# Altium footprint library Step_Motor_Driver.PcbLib: 16 footprints
Each footprint in its own frame and in the unit in brackets; x right, y up, seen from the top. Pads: shape width x height; smd on the part's side, far side on the other; paste and mask are expansions set on the pad; w line width, h text height; cw(c..) or ccw(c..) is an arc to the next point about the centre after c.
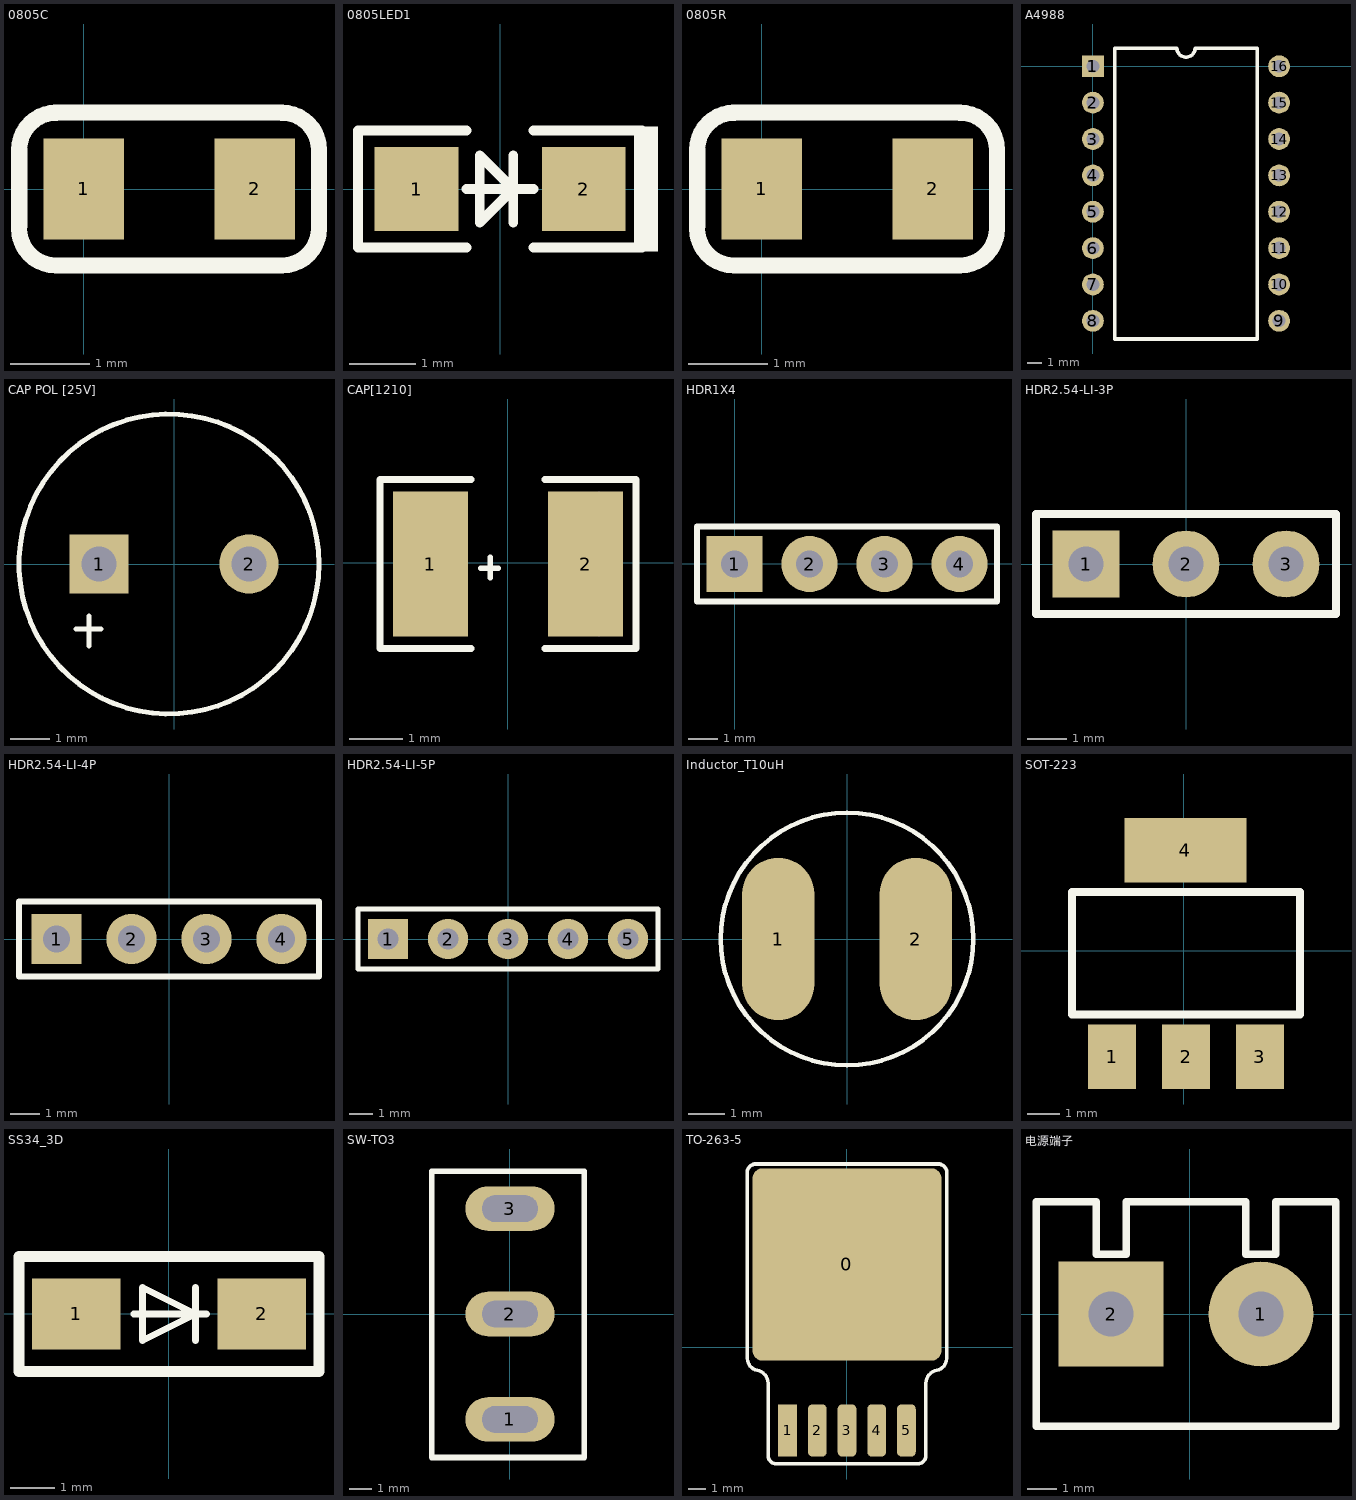
[diagram p0: the footprints below, top view; thin cyan lines are the x and y axes]

## 0805C [mil]
pads (2):
  rect 40x50 smd: 1(0,0) 2(85,0)
Top Overlay:
  lines w8: -32.11,-19.59 ccw(c-13.7,-19.59) -13.7,-38 ; -32,-18.5 -32,18.5 ; -32,19.5 cw(c-13.59,19.5) -13.59,37.91 ; -14.12,38 98.09,38 ; -12.7,-38 98.11,-38 ; 98.59,-38 ccw(c98.59,-19.59) 117,-19.59 ; 98.59,37.91 cw(c98.59,19.5) 117,19.5 ; 117,-18.59 117,18.5
3D body "User Library-0805 SMD Capacitor.STEP": height 30.39, standoff -0.39, extent 3.15,-24.61 81.89,24.61

## 0805LED1 [mil]
pads (2):
  rect 50x50 smd: 1(-50,0) 2(50,0)
Top Overlay:
  rectangle: 80,-37.4 94.48,37.41
  lines w5.91: -20,-35 -85,-35 -85,35 -20,35 ; -20,0 20,0 ; 7.87,-20 7.87,20 ; 20,-35 85,-35 ; 20,35 85,35 ; -12.13,-20 -12.13,20 7.87,0 -12.13,-20
3D body "User Library-led_0805.STEP": height 43.31, standoff 0, extent -36.61,-24.21 42.91,25

## 0805R [mil]
pads (2):
  rect 40x50 smd: 1(0,0) 2(85,0)
Top Overlay:
  lines w8: -32.11,-19.59 ccw(c-13.7,-19.59) -13.7,-38 ; -32,-18.5 -32,18.5 ; -32,19.5 cw(c-13.59,19.5) -13.59,37.91 ; -14.12,38 98.09,38 ; -12.7,-38 98.11,-38 ; 98.59,-38 ccw(c98.59,-19.59) 117,-19.59 ; 98.59,37.91 cw(c98.59,19.5) 117,19.5 ; 117,-18.59 117,18.5
3D body "User Library-0805 SMD R.STEP": height 30.39, standoff -0.39, extent 3.26,-24.61 82,24.61

## A4988 [mil]
pads (16):
  rect 60x60 hole 35: 1(0,0)
  round 60 hole 35: 2(0,-100) 3(0,-200) 4(0,-300) 5(0,-400) 6(0,-500) 7(0,-600) 8(0,-700) 9(512,-700) 10(512,-600) 11(512,-500) 12(512,-400) 13(512,-300) 14(512,-200) 15(512,-100) 16(512,0)
Top Overlay:
  lines w10: 60,-750 452,-750 452,50 281,50 cw(c256,50) 231,50 60,50 60,-750

## CAP POL [25V] [mm]
pads (2):
  rect 1.5x1.5 hole 0.9: 1(-1.905,0)
  round 1.5 hole 0.9: 2(1.905,0)
Top Overlay:
  circle w0.127: c-0.127,0 r3.81
  lines w0.127: -2.489,-1.651 -2.33,-1.651 -2.013,-1.651 -1.854,-1.651 ; -2.159,-2.083 -2.159,-1.321
3D body "8X12.STEP": height 12, standoff -2.5, extent -4,-4 4,4

## CAP[1210] [mm]
pads (2):
  rect 1.402x2.7 smd: 1(-1.45,-0.025) 2(1.45,-0.025)
Top Overlay:
  lines w0: -0.483,-0.102 -0.457,-0.076
  lines w0.102: -0.508,-0.102 -0.178,-0.102 ; -0.33,-0.279 -0.33,0.102
  lines w0.127: -0.686,-1.6 -2.388,-1.6 -2.388,1.549 -0.686,1.549 ; 0.686,-1.6 2.388,-1.6 2.388,1.549 0.686,1.549
Mechanical 13:
  lines w0: 1.7,-1.375 1.7,1.325

## HDR1X4 [mm]
pads (4):
  rect 1.905x1.905 hole 0.9: 1(0,0)
  round 1.905 hole 0.9: 2(2.54,0) 3(5.08,0) 4(7.62,0)
Top Overlay:
  lines w0.2: -1.27,-1.27 -1.27,1.27 8.89,1.27 8.89,-1.27 -1.27,-1.27

## HDR2.54-LI-3P [mm] "排针，3脚"
pads (3):
  rect 1.7x1.7 hole 0.9: 1(-2.54,0)
  round 1.7 hole 0.9: 2(0,0) 3(2.54,0)
Top Overlay:
  lines w0.2: -3.81,-1.27 -3.81,1.27 3.81,1.27 3.81,-1.27 -3.81,-1.27
3D body "HDR2.54-1P.STEP": height 8.5, standoff -3, extent 1.27,-1.27 3.81,1.27
3D body "HDR2.54-1P.STEP": height 8.5, standoff -3, extent -1.27,-1.27 1.27,1.27
3D body "HDR2.54-1P.STEP": height 8.5, standoff -3, extent -3.81,-1.27 -1.27,1.27

## HDR2.54-LI-4P [mm] "排针，4脚"
pads (4):
  rect 1.7x1.7 hole 0.9: 1(-3.81,0)
  round 1.7 hole 0.9: 2(-1.27,0) 3(1.27,0) 4(3.81,0)
Top Overlay:
  lines w0.2: -5.08,-1.27 5.08,-1.27 5.08,1.27 -5.08,1.27 -5.08,-1.27
3D body "HDR2.54-1P.STEP": height 8.5, standoff -3, extent 2.54,-1.27 5.08,1.27
3D body "HDR2.54-1P.STEP": height 8.5, standoff -3, extent 0,-1.27 2.54,1.27
3D body "HDR2.54-1P.STEP": height 8.5, standoff -3, extent -2.54,-1.27 0,1.27
3D body "HDR2.54-1P.STEP": height 8.5, standoff -3, extent -5.08,-1.27 -2.54,1.27

## HDR2.54-LI-5P [mm] "排针，5脚"
pads (5):
  rect 1.7x1.7 hole 0.9: 1(-5.08,0)
  round 1.7 hole 0.9: 2(-2.54,0) 3(0,0) 4(2.54,0) 5(5.08,0)
Top Overlay:
  lines w0.2: -6.35,-1.27 -6.35,1.27 6.35,1.27 6.35,-1.27 -6.35,-1.27
3D body "HDR2.54-1P.STEP": height 8.5, standoff -3, extent 3.81,-1.27 6.35,1.27
3D body "HDR2.54-1P.STEP": height 8.5, standoff -3, extent -1.27,-1.27 1.27,1.27
3D body "HDR2.54-1P.STEP": height 8.5, standoff -3, extent 1.27,-1.27 3.81,1.27
3D body "HDR2.54-1P.STEP": height 8.5, standoff -3, extent -6.35,-1.27 -3.81,1.27
3D body "HDR2.54-1P.STEP": height 8.5, standoff -3, extent -3.81,-1.27 -1.27,1.27

## Inductor_T10uH [mm]
pads (2):
  oval 2x4.5 smd: 1(-1.905,0) 2(1.905,0)
Top Overlay:
  circle w0.127: c0,0 r3.5
3D body: height 6.35, standoff 5.08, extent -3.499,-3.499 3.499,3.499
3D body: height 5.08, standoff 1.27, extent -2.793,-2.793 2.54,2.54
3D body: height 1.27, standoff 0, extent -3.499,-3.499 3.499,3.499

## SOT-223 [mil]
pads (4):
  rect 59x79 smd: 1(-88,-130) 2(2.55,-130) 3(93.1,-130)
  rect 150x79 smd: 4(1.88,123.54)
Top Overlay:
  lines w10: -137.45,-78 -137.45,72 142.55,72 142.55,-78 -137.45,-78
3D body "SOT-223_MP04A.STEP": height 66.93, standoff 0, extent -126.41,-138.72 129.5,135.3

## SS34_3D [mm]
height 2.5
pads (2):
  rect 2x1.6 smd: 1(-2.1,0) 2(2.1,0)
Top Overlay:
  lines w0.152: -0.8,0 0.85,0 ; 0.6,-0.6 0.6,0 ; 0.6,0.6 0.6,0 ; 0.6,0 -0.6,-0.6 -0.6,0 -0.6,0.6 0.6,0
  lines w0.254: -3.4,-1.3 3.4,-1.3 3.4,1.3 -3.4,1.3 -3.4,-1.3
3D body "User Library-DO-214AC_SMA.step": height 2.15, standoff -0.05, extent -2.46,-1.36 2.54,1.34

## SW-TO3 [mm]
pads (3):
  oval 4x2 hole 1.2 slot 2.5 at 0 deg: 1(0,-4.724) 2(0,0) 3(0,4.724)
Top Overlay:
  lines w0.254: -3.504,-6.433 3.329,-6.433 3.329,6.394 -3.504,6.394 -3.504,-6.433
3D body "7101SYZBE CK switch.step": height 28.55, standoff -3.83, extent -3.43,-6.363 3.43,6.35

## TO-263-5 [mm]
pads (6):
  rrect10% 10.8x11 smd: 0(0,4.75)
  rect 1.07x3 smd: 1(-3.4,-4.75)
  rrect50% 1.07x3 smd: 2(-1.7,-4.75) 3(0,-4.75) 4(1.7,-4.75) 5(3.4,-4.75)
Top Overlay:
  lines w0.2: -4.512,-6.122 ccw(c-4.028,-6.181) -4.125,-6.659 ; 4.125,-6.659 ccw(c4.028,-6.181) 4.512,-6.122
  lines w0.203: -5.7,10.05 -5.7,-0.53 ccw(c-5.005,-0.615) -5.145,-1.301 cw(c-5.306,-2.084) -4.512,-2.181 -4.512,-6.122 ; -5.7,10.109 cw(c-5.222,10.011) -5.299,10.493 ; -5.3,10.5 5.3,10.5 ; -4.125,-6.659 4.125,-6.659 ; 4.512,-6.122 4.512,-2.181 cw(c5.306,-2.084) 5.145,-1.301 ccw(c5.005,-0.615) 5.7,-0.53 5.7,10.05 ; 5.299,10.493 cw(c5.222,10.011) 5.7,10.109
3D body "SW3dPS-LTC DD-PAK.STEP": height 4.48, standoff 0, extent -5.137,-4.801 5.087,9.55

## 电源端子 [mil]
pads (2):
  round 140 hole 60: 1(95,0)
  rect 140x140 hole 60: 2(-105,0)
Top Overlay:
  lines w10: -205,-150 195,-150 195,150 115,150 115,80 75,80 75,150 -85,150 -85,80 -125,80 -125,150 -205,150 -205,-150
3D body "User Library-CN_BT_1X2.step": height 393.7, standoff -89.92, extent -201.69,-148.15 211.69,155